# Altium schematic symbol library SIUE_Symbol.SchLib: 40 symbols
Pins are listed as number, name and electrical type; pins without a type are passive.

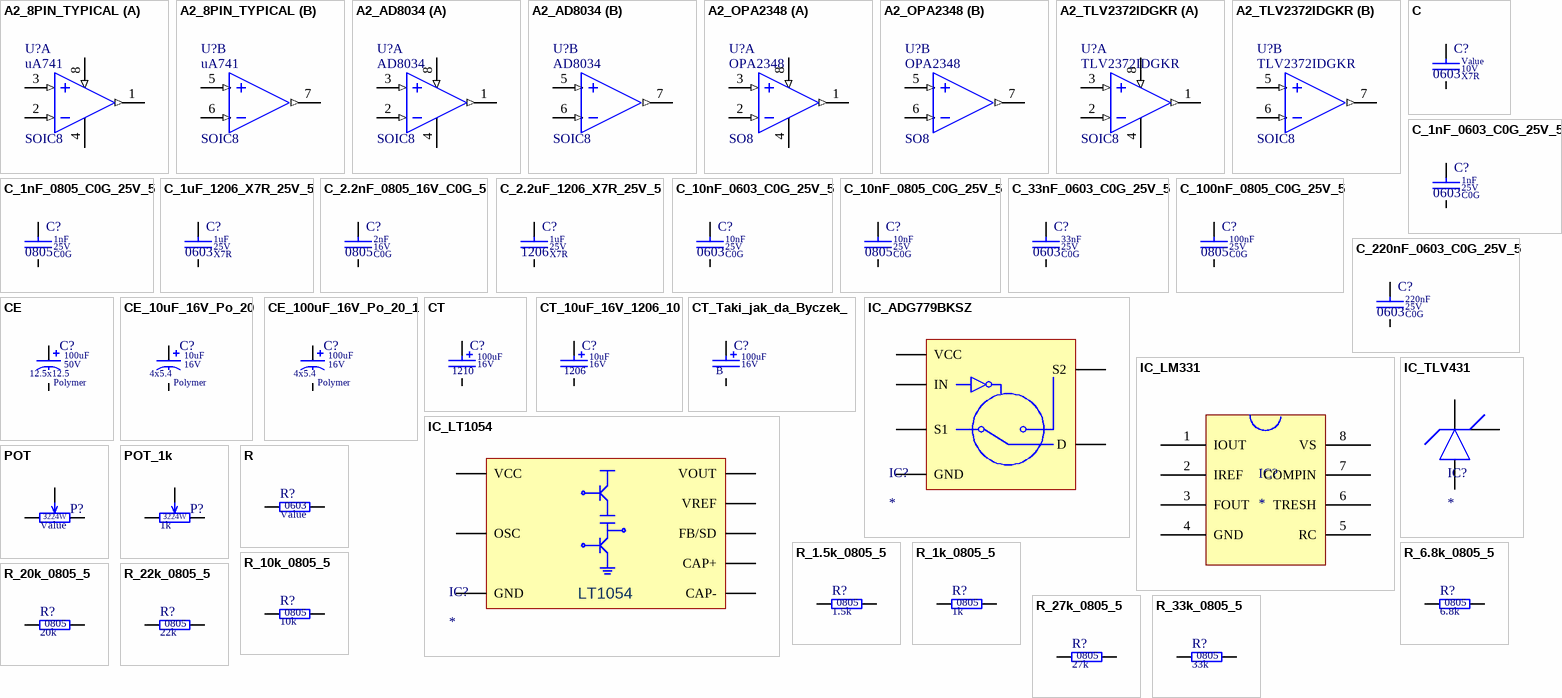
[diagram p0: symbols A2_8PIN_TYPICAL to R_33k_0805_5]

## A2_8PIN_TYPICAL
designator U?  value uA741  SCH_Footprint: SOIC8
part A pins: 1 OUT1 (out), 2 IN-1 (in), 3 IN+1 (in), 4 GND (power), 8 VDD (in)
part B pins: 5 IN+2 (in), 6 IN-2 (in), 7 OUT2 (out)

## A2_AD8034
designator U?  value AD8034  SCH_Footprint: SOIC8
footprint SO8
part A pins: 1 OUT1 (out), 2 IN-1 (in), 3 IN+1 (in), 4 GND (power), 8 VDD (in)
part B pins: 5 IN+2 (in), 6 IN-2 (in), 7 OUT2 (out)

## A2_OPA2348
designator U?  value OPA2348  SCH_Footprint: SO8
footprint SO8
part A pins: 1 OUT1 (out), 2 IN-1 (in), 3 IN+1 (in), 4 GND (power), 8 VDD (in)
part B pins: 5 IN+2 (in), 6 IN-2 (in), 7 OUT2 (out)

## A2_TLV2372IDGKR
designator U?  value TLV2372IDGKR  SCH_Footprint: SOIC8
footprint VSSOP8
part A pins: 1 OUT1 (out), 2 IN-1 (in), 3 IN+1 (in), 4 GND (power), 8 VDD (in)
part B pins: 5 IN+2 (in), 6 IN-2 (in), 7 OUT2 (out)

## C
designator C?  Dielectric: X7R  Voltage: 10V  SCH_Footprint: 0603
Capacitor; Value: Value
pins: 1, 2
3 alternate drawings of the same symbol

## C_1nF_0603_C0G_25V_5
designator C?  value 1nF  Dielectric: C0G  Voltage: 25V  SCH_Footprint: 0603
Capacitor
footprint C_0603_1608
pins: 1, 2
3 alternate drawings of the same symbol

## C_1nF_0805_C0G_25V_5
designator C?  value 1nF  Dielectric: C0G  Voltage: 25V  SCH_Footprint: 0805
Capacitor
footprint C_0805_2012
pins: 1, 2
3 alternate drawings of the same symbol

## C_1uF_1206_X7R_25V_5
designator C?  value 1uF  Dielectric: X7R  Voltage: 25V  SCH_Footprint: 0603
Capacitor
footprint C_1206_3216
pins: 1, 2
3 alternate drawings of the same symbol

## C_2.2nF_0805_16V_C0G_5
designator C?  value 2nF  Dielectric: C0G  Voltage: 16V  SCH_Footprint: 0805
Capacitor
footprint C_0805_2012
pins: 1, 2
3 alternate drawings of the same symbol

## C_2.2uF_1206_X7R_25V_5
designator C?  value 1uF  Dielectric: X7R  Voltage: 25V  SCH_Footprint: 1206
Capacitor
footprint C_1206_3216
pins: 1, 2
3 alternate drawings of the same symbol

## C_10nF_0603_C0G_25V_5
designator C?  value 10nF  Dielectric: C0G  Voltage: 25V  SCH_Footprint: 0603
Capacitor
footprint C_0603_1608
pins: 1, 2
3 alternate drawings of the same symbol

## C_10nF_0805_C0G_25V_5
designator C?  value 10nF  Dielectric: C0G  Voltage: 25V  SCH_Footprint: 0805
Capacitor
footprint C_0805_2012
pins: 1, 2
3 alternate drawings of the same symbol

## C_33nF_0603_C0G_25V_5
designator C?  value 33nF  Dielectric: C0G  Voltage: 25V  SCH_Footprint: 0603
Capacitor
footprint C_0603_1608
pins: 1, 2
3 alternate drawings of the same symbol

## C_100nF_0805_C0G_25V_5
designator C?  value 100nF  Dielectric: C0G  Voltage: 25V  SCH_Footprint: 0805
Capacitor
footprint C_0805_2012
pins: 1, 2
3 alternate drawings of the same symbol

## C_220nF_0603_C0G_25V_5
designator C?  value 220nF  Dielectric: C0G  Voltage: 25V  SCH_Footprint: 0603
Capacitor
footprint C_0603_1608
pins: 1, 2
3 alternate drawings of the same symbol

## CE
designator C?, comment Dielectric: Polymer  SCH_Footprint: 12.5x12.5  Voltage: 50V  (hidden comment: 100uF)
Polarized Capacitor; Value: 100uF
pins: 1, 2
2 alternate drawings of the same symbol

## CE_10uF_16V_Po_20
designator C?, comment Dielectric: Polymer  SCH_Footprint: 4x5.4  Voltage: 16V  (hidden comment: 10uF)
Polarized Capacitor; Value: 10uF
footprint CE_4x5.4
pins: 1, 2
2 alternate drawings of the same symbol

## CE_100uF_16V_Po_20_1
designator C?, comment Dielectric: Polymer  SCH_Footprint: 4x5.4  Voltage: 16V  (hidden comment: 100uF)
Polarized Capacitor; Value: 100uF
footprint CE_8x6.2
pins: 1, 2
2 alternate drawings of the same symbol

## CT
designator C?  value 100uF  SCH_Footprint: 1210  Voltage: 16V
Capacitor
pins: 1, 2
2 alternate drawings of the same symbol

## CT_10uF_16V_1206_10
designator C?  value 10uF  SCH_Footprint: 1206  Voltage: 16V
Capacitor
footprint CT_1206_3216
pins: 1, 2
2 alternate drawings of the same symbol

## CT_Taki_jak_da_Byczek_
designator C?  value 100uF  SCH_Footprint: B  Voltage: 16V
Capacitor
footprint CT_B_CASE_BIG
pins: 1, 2
2 alternate drawings of the same symbol

## IC_ADG779BKSZ
designator IC?
footprint SC70
pins: 1 IN "VCAP", 2 VCC "VCAP", 3 GND "VCAP", 4 S1 "VCAP", 5 D "VCAP", 6 S2 "VCAP"

## IC_LM331
designator IC?
footprint DIP8
pins: 1 IOUT, 2 IREF, 3 FOUT, 4 GND, 5 RC, 6 TRESH, 7 COMPIN, 8 VS

## IC_LT1054
designator IC?
footprint SOIC16
pins: 3 FB/SD "VCAP", 4 CAP+ "VCAP", 5 GND "VCAP", 6 CAP- "VCAP", 11 VOUT "VCAP", 12 VREF "VCAP", 13 OSC "VCAP", 14 VCC "VCAP"
text: LT1054

## IC_TLV431
designator IC?
footprint SOT23
pins: 1 REF, 2 CATH, 3 ANODE

## POT
designator P?  SCH_Footprint: 3224W
Value: Value
footprint Potentiometer
pins: 1, 2, 3

## POT_1k
designator P?  value 1k  SCH_Footprint: 3224W
footprint Potentiometer
pins: 1, 2, 3

## R
designator R?  SCH_Footprint: 0603  Resistance: Value
Tolerance: Value
pins: 1, 2
3 alternate drawings of the same symbol

## R_1.5k_0805_5
designator R?  SCH_Footprint: 0805  Resistance: 1.5k
Tolerance: 5
footprint R_0805_2012
pins: 1, 2
3 alternate drawings of the same symbol

## R_1k_0805_5
designator R?  SCH_Footprint: 0805  Resistance: 1k
Tolerance: 5
footprint R_0805_2012
pins: 1, 2
3 alternate drawings of the same symbol

## R_6.8k_0805_5
designator R?  SCH_Footprint: 0805  Resistance: 6.8k
Tolerance: 5
footprint R_0805_2012
pins: 1, 2
3 alternate drawings of the same symbol

## R_10k_0805_5
designator R?  SCH_Footprint: 0805  Resistance: 10k
Tolerance: 5
footprint R_0805_2012
pins: 1, 2
3 alternate drawings of the same symbol

## R_20k_0805_5
designator R?  SCH_Footprint: 0805  Resistance: 20k
Tolerance: 5
footprint R_0805_2012
pins: 1, 2
3 alternate drawings of the same symbol

## R_22k_0805_5
designator R?  SCH_Footprint: 0805  Resistance: 22k
Tolerance: 5
footprint R_0805_2012
pins: 1, 2
3 alternate drawings of the same symbol

## R_27k_0805_5
designator R?  SCH_Footprint: 0805  Resistance: 27k
Tolerance: 5
footprint R_0805_2012
pins: 1, 2
3 alternate drawings of the same symbol

## R_33k_0805_5
designator R?  SCH_Footprint: 0805  Resistance: 33k
Tolerance: 5
footprint R_0805_2012
pins: 1, 2
3 alternate drawings of the same symbol

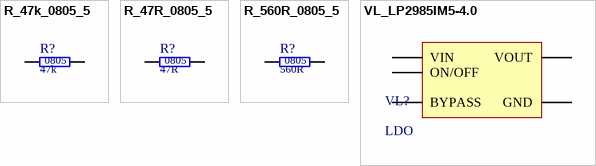
[diagram p1: symbols R_47k_0805_5 to VL_LP2985IM5-4.0]

## R_47k_0805_5
designator R?  SCH_Footprint: 0805  Resistance: 47k
Tolerance: 5
footprint R_0805_2012
pins: 1, 2
3 alternate drawings of the same symbol

## R_47R_0805_5
designator R?  SCH_Footprint: 0805  Resistance: 47R
Tolerance: 5
footprint R_0805_2012
pins: 1, 2
3 alternate drawings of the same symbol

## R_560R_0805_5
designator R?  SCH_Footprint: 0805  Resistance: 560R
Tolerance: 5
footprint R_0805_2012
pins: 1, 2
3 alternate drawings of the same symbol

## VL_LP2985IM5-4.0
designator VL?, comment LDO
Vout: 4V; Vin min: 2.5V; Vin max: 16V; Iout: 150mA; Vdrop: 250mV
footprint SOT23-5
pins: 1 VIN "VCAP", 2 GND "VCAP", 3 ON/OFF "VCAP", 4 BYPASS "VCAP", 5 VOUT "VCAP"